# EAGLE library part EA_DIP204 (library m_module)
LCD MODULE 4x20 2 9-pin header conenction (2mm)
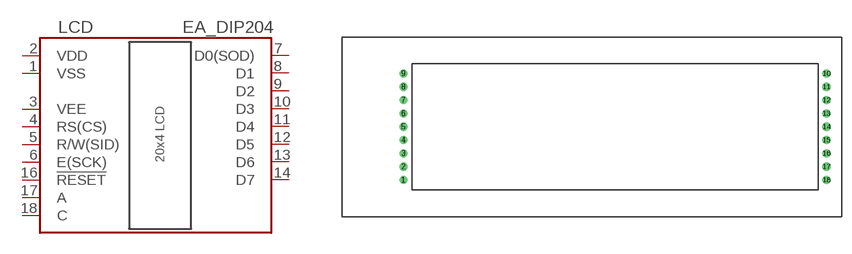
[diagram p1: symbol with the pads of EA_DIP204-4; footprint EA_DIP204-4]

Designator prefix LCD

## EA_DIP204J-4NLW  [EA_DIP204-4]
1  VSS  pas
2  VDD  pas
3  VEE  pas
4  RS(CS)  pas
5  R/W(SID)  pas
6  E(SCK)  pas
7  D0(SOD)  pas
8  D1  pas
9  D2  pas
10  D3  pas
11  D4  pas
12  D5  pas
13  D6  pas
14  D7  pas
16  !RESET  pas
17  A  pas
18  C  pas

## Footprint EA_DIP204-4 (pad centres in mm)
EA DIP204-4 White backlight, 75mm width
drill 0.711: 1 -31.75,-8; 2 -31.75,-6; 3 -31.75,-4; 4 -31.75,-2; 5 -31.75,0; 6 -31.75,2; 7 -31.75,4; 8 -31.75,6; 9 -31.75,8; 10 31.75,8; 11 31.75,6; 12 31.75,4; 13 31.75,2; 14 31.75,0; 15 31.75,-2; 16 31.75,-4; 17 31.75,-6; 18 31.75,-8